# EAGLE library part MC14011BDR2G (library on-semiconductor-01)
B-Suffix Series CMOS Gates
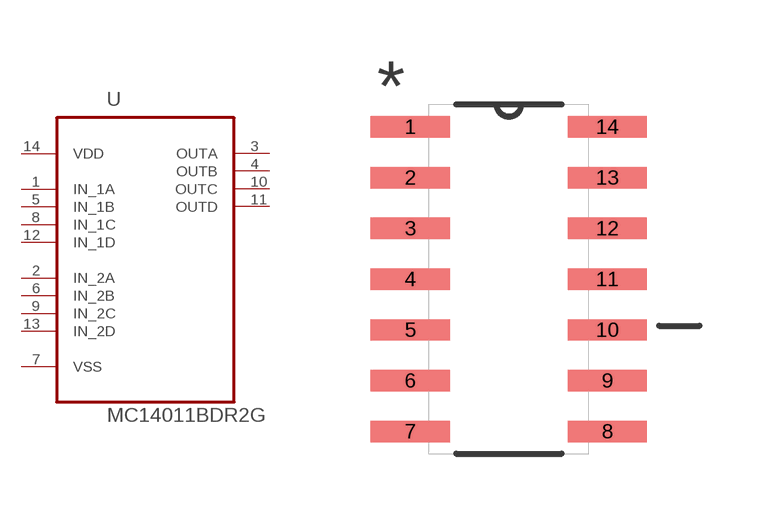
[diagram p198: symbol with the pads of SOIC127P600X175-14N; footprint SOIC127P600X175-14N]

Designator prefix U

## MC14011BDR2G (MPN: MC14011BDR2G; OC_FARNELL: 1273009; OC_NEWARK: 45J1015; PACKAGE: SOIC-14; SUPPLIER: ON SEMICONDUCTOR)  [SOIC127P600X175-14N]
1  IN_1A  in
2  IN_2A  in
3  OUTA  out
4  OUTB  out
5  IN_1B  in
6  IN_2B  in
7  VSS  pas
8  IN_1C  in
9  IN_2C  in
10  OUTC  out
11  OUTD  out
12  IN_1D  in
13  IN_2D  in
14  VDD  pwr

## Footprint SOIC127P600X175-14N (pad centres in mm)
smd 1.981 x 0.533: 1 -2.464,3.81; 2 -2.464,2.54; 3 -2.464,1.27; 4 -2.464,0; 5 -2.464,-1.27; 6 -2.464,-2.54; 7 -2.464,-3.81; 8 2.464,-3.81; 9 2.464,-2.54; 10 2.464,-1.27; 11 2.464,0; 12 2.464,1.27; 13 2.464,2.54; 14 2.464,3.81